# Altium schematic symbol library lib_lineartech.SchLib: 4 symbols
Pins are listed as number, name and electrical type; pins without a type are passive.

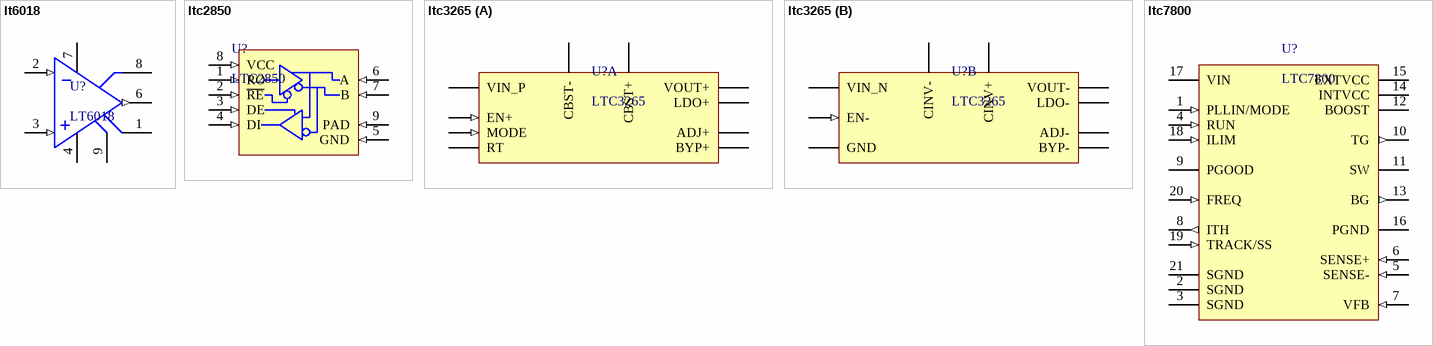
[diagram p0: symbols lt6018 to ltc7800]

## lt6018
designator U?, comment LT6018
33V, Ultralow Noise, / Precision Op Amp
footprint SOIC127P600X175_HS-9N (SOIC, 8-Leads, Body 4,90x3,90mm, Pitch 1,27mm, Thermal Pad 3,55x2,53mm, IPC Medium Density)
pins: 1 DGND, 2 IN- (in), 3 IN+ (in), 4 V- (power), 6 OUT (out), 7 V+ (power), 8 EN, 9 V- (power)

## ltc2850
designator U?, comment LTC2850
3.3V 20Mbps RS485/RS422 / Transceivers
footprint SON50P300X80_HS-9N (SON, 8-Leads, Body 3,00x3,00mm, Pitch 0,50mm, Thermal Pad 2,38x1,49mm, IPC Medium Density)
pins: 1 RO (in), 2 ~{RE} (in), 3 DE (in), 4 DI (in), 5 GND (in), 6 A (in), 7 B (in), 8 VCC (in), 9 PAD (in)

## ltc3265
designator U?, comment LTC3265
Low Noise Dual Supply / with Boost and Inverting / Charge Pumps
footprint TSOP65P640X120_HS-21N (TSOP, 20-Leads, Body 6,50x4,40mm, Pitch 0,65mm, Thermal Pad 6,07x2,74mm, IPC Medium Density)
part A pins: 2 CBST-, 3 CBST+, 4 VIN_P, 14 RT (power), 15 EN+ (in), 16 MODE (in), 17 BYP+, 18 ADJ+, 19 LDO+ (power), 20 VOUT+ (power)
part B pins: 5 EN- (in), 6 BYP-, 7 ADJ-, 8 LDO- (power), 9 VOUT- (power), 10 CINV-, 12 CINV+, 13 VIN_N (power), 21 GND (power)

## ltc7800
designator U?, comment LTC7800
Low IQ, 60V, High Frequency Synchronous Step-Down Controller; ComponentLink1Description: datasheet; ComponentLink1URL: https://www.analog.com/media/en/technical-documentation/data-sheets/7800f.pdf
footprint QFN50P300X400X80_HS-21N_LTC7800 (QFN, 20-Leads, Body 3.00x4.00mm, Pitch 0.50mm, Thermal Pad 1.65x2.65mm, IPC Medium Density)
pins: 1 PLLIN/MODE (in), 2 SGND (power), 3 SGND (power), 4 RUN (in), 5 SENSE- (in), 6 SENSE+ (in), 7 VFB (in), 8 ITH (out), 9 PGOOD (oc), 10 TG (out), 11 SW, 12 BOOST, 13 BG (out), 14 INTVCC (power), 15 EXTVCC (power), 16 PGND (power), 17 VIN (power), 18 ILIM (in), 19 TRACK/SS (in), 20 FREQ (in), 21 SGND (power)